# Altium schematic symbol library SpectrumComponents.SchLib: 13 symbols
Pins are listed as number, name and electrical type; pins without a type are passive.

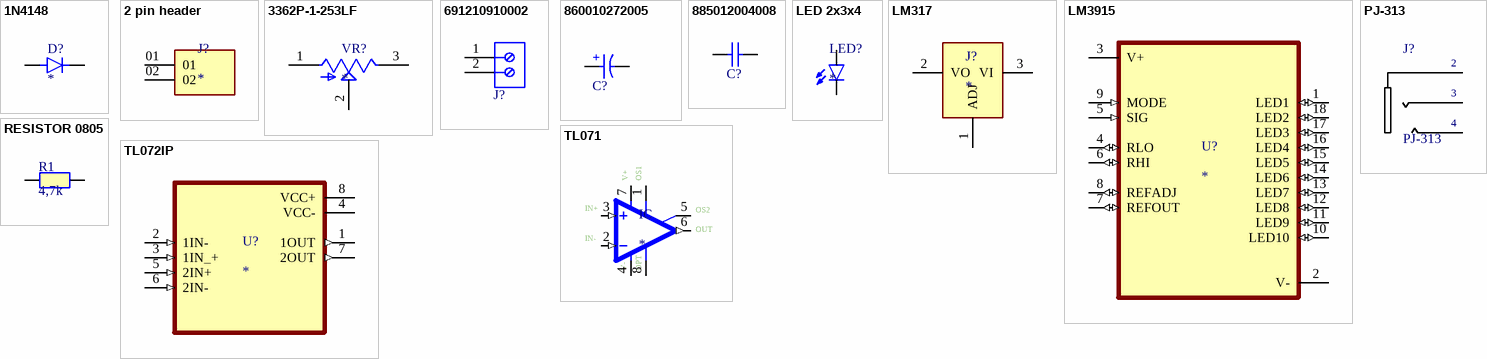
[diagram p0: symbols 1N4148 to TL072IP]

## 1N4148
designator D?
Diode Standard 75V 200mA Surface Mount SOD-523F; MP: 1N4148; MF: ON Semiconductor; Price: None; Availability: In Stock; Package: AXIAL LEAD-2 ON Semiconductor; Value: *; SnapEDA_Link: https://www.snapeda.com/parts/1N4148/Onsemi/view-part/?ref=snap; Purchase-URL: https://pricing.snapeda.com/search/part/1N4148/?ref=eda; Check_prices: https://www.snapeda.com/parts/1N4148/Onsemi/view-part/?ref=eda
footprint DIOAD829W49L456D191
pins: A, C

## 2 pin header
designator J?
HEADER, 2 CONTACTS, 1 ROW, THROUGH HOLE, 2.54 MM; Connector Systems:Board-to-Board; Pitch Spacing:2.54mm; No. of Rows:1Rows; No. of Contacts:2Contacts; Contact Termination Type:Through Hole; Product Range:HTSW Series; Gender:Header RoHS Compliant: Yes; MP: HTSW10207TMS; MF: Samtec; SnapEDA_Link: https://www.snapeda.com/parts/HTSW10207TMS/Samtec/view-part/?ref=snap; Value: *; Purchase-URL: https://pricing.snapeda.com/search/part/HTSW10207TMS/?ref=eda; Availability: In Stock; Check_prices: https://www.snapeda.com/parts/HTSW10207TMS/Samtec/view-part/?ref=eda; Package: None; Price: None
footprint SAMTEC_HTSW-102-07-TM-S
pins: 01, 02

## 3362P-1-253LF
designator VR?
25 kOhms 0.5W, 1/2W PC Pins Through Hole Trimmer Potentiometer Cermet 1 Turn Top Adjustment; MF: Bourns; MP: 3362P-1-253LF; Check_prices: https://www.snapeda.com/parts/3362P-1-253LF/Bourns/view-part/493663/?ref=eda; SnapEDA_Link: https://www.snapeda.com/parts/3362P-1-253LF/Bourns/view-part/493663/?ref=snap; Availability: Good; Value: *; Purchase-URL: https://pricing.snapeda.com/search/part/3362P-1-253LF/?ref=eda; Price: None; Package: 3116 Bourns
footprint TRIM_3362P-1-253LF
pins: 1 CCW, 2 WIPER, 3 CW

## 691210910002
designator J?  (value not drawn)
WR-TBL Series 2109 Horizontal Entry, THT, pitch 2.54mm, 2p; Manufacturer: Wurth Elektronik; Modularity: No; Rated Current: 6A; Working Voltage: 150V; ComponentLink1Description: Website Link; ComponentLink1URL: https://www.we-online.com/redexpert/article/691210910002?ad; ComponentLink2Description: Datasheet Link; ComponentLink2URL: https://www.we-online.com/redexpert/spec/691210910002?ad; Manufacturer Part Number: 691210910002; Category: Terminal Blocks; Match Code: WR-TBL; Mount: Through Hole; Operating Temperature Max: 105°C; Operating Temperature Min: -40°C; Packaging: Box; Application: Rising Cage Clamp; Number of Pins: 2; Number of Rows: 1; Orientation: Horizontal; Pitch: 2.54mm
pins: 1, 2

## 860010272005
designator C?, comment 100µF  (value not drawn)
WCAP-ATG8 Aluminum Electrolytic Capacitor, Radial, THT, D5 x H11mm, 100µF, 10V; Manufacturer Part Number: 860010272005; Manufacturer: Wurth Elektronik; Capacitance Tolerance: +/-20%; Dissipation Factor: 19%; Endurance: 2000h; Leakage Current: 10µA; Ripple Current: 198mA; Technical Reference: ATBC110101M010DSPA3B000; Category: Aluminum Electrolytic Capacitors; Match Code: WCAP-ATG8; ComponentLink1Description: Website Link; ComponentLink1URL: https://www.we-online.com/redexpert/article/860010272005?ad; ComponentLink2Description: Datasheet Link; ComponentLink2URL: https://www.we-online.com/redexpert/spec/860010272005?ad; Mount: Through Hole; Operating Temperature Max: 85°C; Operating Temperature Min: -40°C; Packaging: Ammo Pack; Height: 11mm; Diameter: 5mm; Capacitance: 100µF; Rated Voltage (DC): 10V
footprint WCAP-ATG8_D5H11 (Aluminum Electrolytic Capacitors, 5x11mm)
simulation model 860010272005_100uF
footprint WCAP-MN_D4H8 (Aluminum Electrolytic Capacitors, 5x11mm)
footprint WCAP-ATG8_D13H20 (Aluminum Electrolytic Capacitors, 13x20mm)
footprint WCAP-ATG8_D6.3H11 (Aluminum Electrolytic Capacitors, 6.3x11mm)
footprint CAPPA4610W80L1850D690
pins: 1 P, 2 N
text: +

## 885012004008
designator C?, comment 22pF  (value not drawn)
WCAP-CSGP Multilayer Ceramic Chip Capacitor, General Purpose, size 0201, NP0 Class I, 22pF, 25VDC; Manufacturer Part Number: 885012004008; Manufacturer: Wurth Elektronik; Case/Size Code: 0201; Capacitance Tolerance: +/-5%; Insulation Resistance: 10GΩ; Q Factor: 840; Rated Voltage (DC): 25V; Technical Reference: NP00201220J025DFCT10000; Category: Multilayer Ceramic Chip Capacitors; Match Code: WCAP-CSGP; ComponentLink1Description: Website Link; ComponentLink1URL: https://www.we-online.com/redexpert/article/885012004008?ad; ComponentLink2Description: Datasheet Link; ComponentLink2URL: https://www.we-online.com/redexpert/spec/885012004008?ad; Mount: Surface Mount; Operating Temperature Max: 125°C; Operating Temperature Min: -55°C; Packaging: Tape and Reel; Length: 0.6mm; Width: 0.3mm; Height: 0.3mm; Capacitance: 22pF; Ceramic Type: NP0 Class I
footprint CAPC2012X65N
pins: 1, 2

## LED 2x3x4
designator LED?
Green 569nm LED Indication - Discrete 1.9V Radial; MP: TLLG4400; MF: Vishay Semiconductors; SnapEDA_Link: https://www.snapeda.com/parts/TLLG4400/Vishay/view-part/?ref=snap; Availability: In Stock; Package: None; Check_prices: https://www.snapeda.com/parts/TLLG4400/Vishay/view-part/?ref=eda; Value: *; Purchase-URL: https://pricing.snapeda.com/search/part/TLLG4400/?ref=eda; Price: None
footprint LED 2x3x4mm
pins: A, K C

## LM317
designator J?
Standard Regulator Pos 1.2V to 37V 0.25A 3-Pin(3+Tab) TO-220 Tube; MP: LM317; MF: ON Semiconductor; Check_prices: https://www.snapeda.com/parts/LM317/Onsemi/view-part/?ref=eda; Value: *; Availability: In Stock; Price: None; Package: None; SnapEDA_Link: https://www.snapeda.com/parts/LM317/Onsemi/view-part/?ref=snap; Purchase-URL: https://pricing.snapeda.com/search/part/LM317/?ref=eda
footprint TO-220
pins: 1 ADJ (power), 2 VO (power), 3 VI (power)

## LM3915
designator U?
LM3915; MP: LM3914N-1; Package: None; Availability: Unavailable; Price: None; Value: *
footprint DIP952W45P254L2336H533Q18
pins: 1 LED1 (io), 2 V- (power), 3 V+ (power), 4 RLO (io), 5 SIG (in), 6 RHI (io), 7 REFOUT (io), 8 REFADJ (io), 9 MODE (in), 10 LED10 (io), 11 LED9 (io), 12 LED8 (io), 13 LED7 (io), 14 LED6 (io), 15 LED5 (io), 16 LED4 (io), 17 LED3 (io), 18 LED2 (io)

## PJ-313
designator J?
3,5cm jack; MP: PJ313; MF: ADC Telecommunications; Package: None; Availability: Not in stock; Check_prices: https://www.snapeda.com/parts/PJ313/ADC+Telecommunications/view-part/?ref=eda; SnapEDA_Link: https://www.snapeda.com/parts/PJ313/ADC+Telecommunications/view-part/?ref=snap; Price: None; Value: *
footprint *PJ-313_PJ-313(Primary)
pins: 2_1 2, 2_2 2, 3, 4_1 4, 4_2 4

## RESISTOR 0805
designator R1, comment 4,7k
4,7k Resistor 0805; Part Number: TNPW080510K0BETA; Manufacturer: Vishay Dale
footprint RESC2012X50N
footprint RESC2012X50N
pins: 1, 2
1 alternate drawing of the same symbol

## TL071
designator IC
J-FET Amplifier 1 Circuit 8-SO; MP: TL071; MF: STMicroelectronics; Price: None; SnapEDA_Link: https://www.snapeda.com/parts/TL071/STMicroelectronics/view-part/1566080/?ref=snap; Availability: Unavailable; Value: *; Package: SOIC-8 STMicroelectronics
footprint DIL08
pins: 1 ON1, 2 -IN (in), 3 +IN (in), 4 V- (power), 5 ON2, 6 OUT (out), 7 V+ (power), 8 OPT
text: OS1; IN+; OS2; IN-

## TL072IP
designator U?
Dual, 30-V, 3-MHz, high slew rate (13-V/Âµs), In to V+, JFET-input op amp; MF: Texas Instruments; MP: TL072IP; Price: None; Package: PDIP-8 Texas; Purchase-URL: https://pricing.snapeda.com/search/part/TL072IP/?ref=eda; Availability: In Stock; SnapEDA_Link: https://www.snapeda.com/parts/TL072IP/Texas+Instruments/view-part/?ref=snap; Value: *; Check_prices: https://www.snapeda.com/parts/TL072IP/Texas+Instruments/view-part/?ref=eda
footprint DIP794W45P254L959H508Q8
pins: 1 1OUT (out), 2 1IN- (in), 3 1IN_+ (in), 4 VCC- (power), 5 2IN+ (in), 6 2IN- (in), 7 2OUT (out), 8 VCC+ (power)